# Altium schematic symbol library LF.Electronics.SchLib: 15 symbols
Pins are listed as number, name and electrical type; pins without a type are passive.

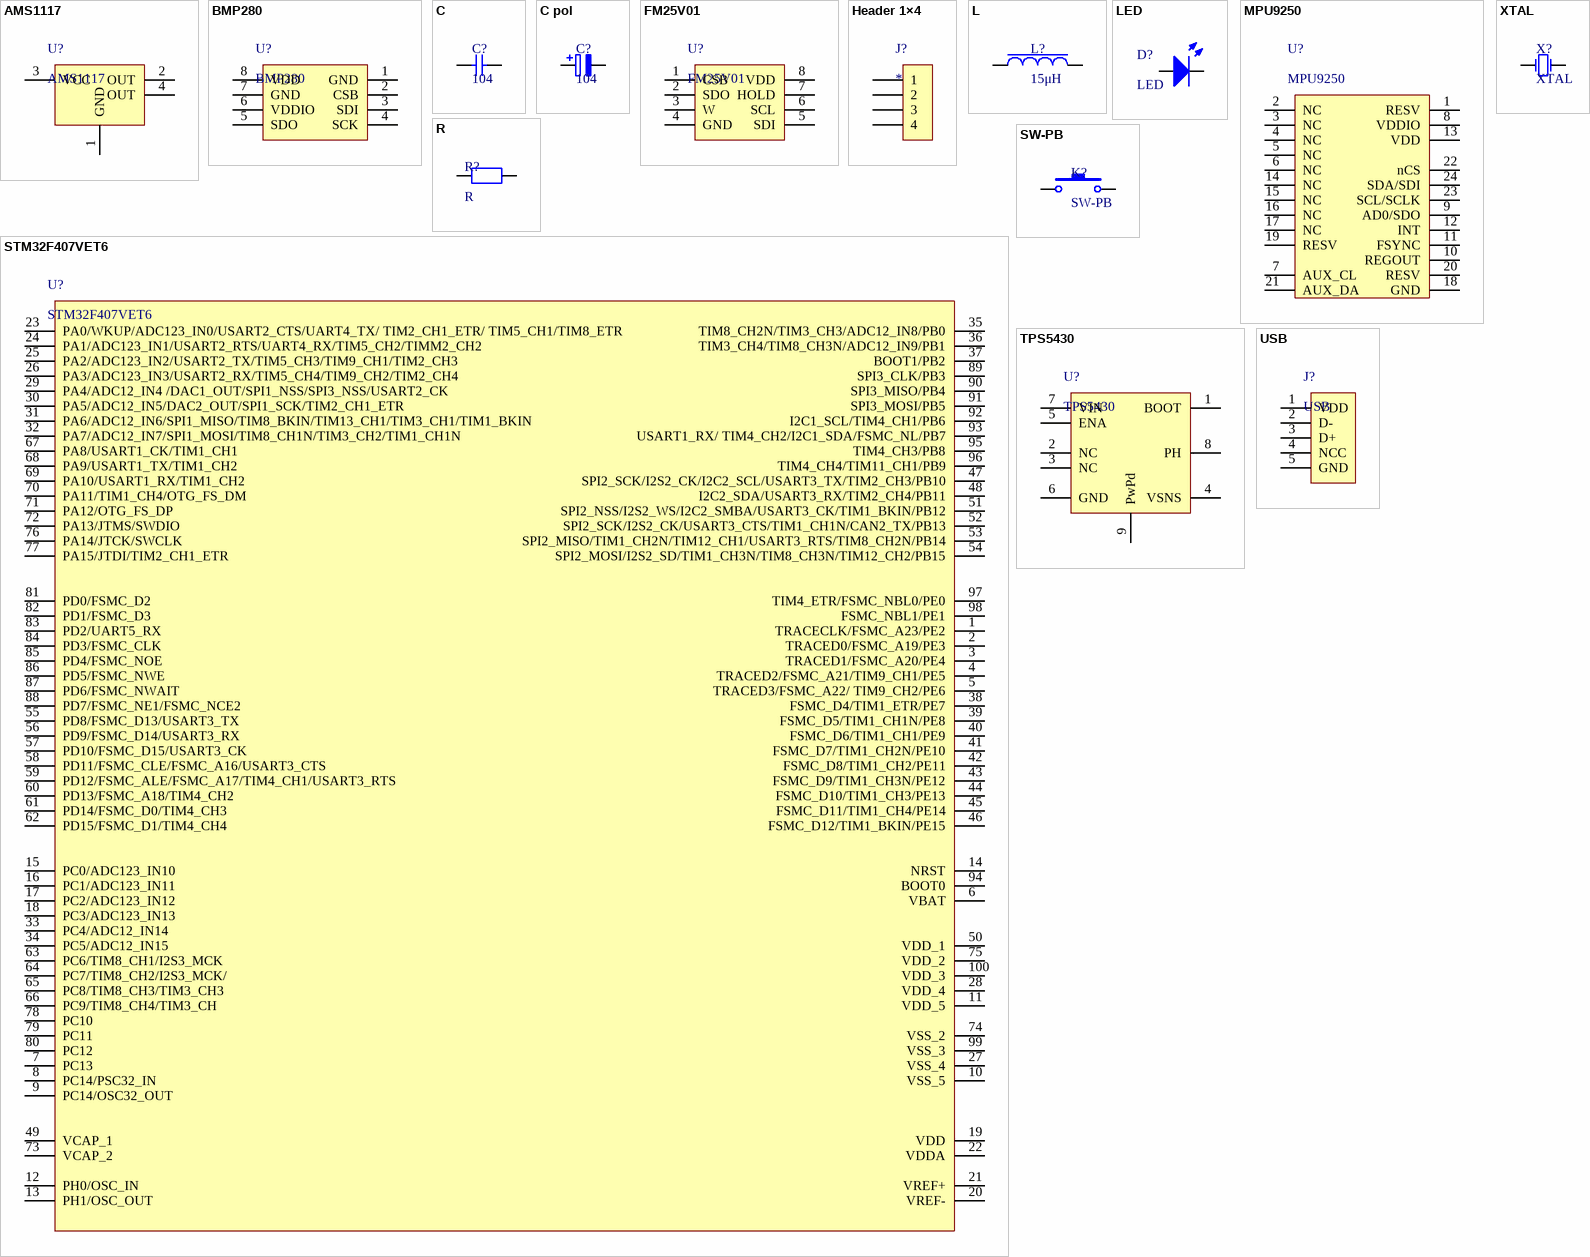
[diagram p0: symbols AMS1117 to XTAL]

## AMS1117
designator U?
footprint AMS1117 (SOT223, 4-Leads, Body 6.51x7.00mm (avg), Pitch 2.29mm, IPC Medium Density)
pins: 1 GND, 2 OUT, 3 VCC, 4 OUT

## BMP280
designator U?
pins: 1 GND, 2 CSB, 3 SDI, 4 SCK, 5 SDO, 6 VDDIO, 7 GND, 8 VDD

## C
designator C?, comment 104
footprint RC0805
pins: 1, 2

## C pol
designator C?, comment 104
footprint RC0603
pins: 1, 2

## FM25V01
designator U?
footprint FM25V01 (SOIC, 8-Leads, Body 4.90x3.90mm, Pitch 1.27mm, IPC Medium Density)
pins: 1 CSB "Chip Select", 2 SDO "Serial data output", 3 W "Write Protect", 4 GND, 5 SDI "Serial Data Input", 6 SCL "Serial Clock", 7 HOLD "Hold", 8 VDD

## Header 1×4
designator J?
pins: 1, 2, 3, 4

## L
designator L?, comment 15μH
footprint CD45
pins: 1, 2

## LED
designator D?
footprint LED
pins: 1, 2

## MPU9250
designator U?
footprint MPU9250
pins: 1 RESV, 2 NC, 3 NC, 4 NC, 5 NC, 6 NC, 7 AUX_CL, 8 VDDIO, 9 AD0/SDO, 10 REGOUT, 11 FSYNC, 12 INT, 13 VDD, 14 NC, 15 NC, 16 NC, 17 NC, 18 GND, 19 RESV, 20 RESV, 21 AUX_DA, 22 nCS, 23 SCL/SCLK, 24 SDA/SDI

## R
designator R?
footprint RC0805
pins: 1, 2

## STM32F407VET6
designator U?
footprint STM32F407VET6 (TSQFP, 100-Leads, Body 14.00x14.00mm, Pitch 0.50mm, IPC Medium Density)
pins: 1 TRACECLK/FSMC_A23/PE2, 2 TRACED0/FSMC_A19/PE3, 3 TRACED1/FSMC_A20/PE4, 4 TRACED2/FSMC_A21/TIM9_CH1/PE5, 5 TRACED3/FSMC_A22/ TIM9_CH2/PE6, 6 VBAT, 7 PC13, 8 PC14/PSC32_IN, 9 PC14/OSC32_OUT, 10 VSS_5, 11 VDD_5, 12 PH0/OSC_IN, 13 PH1/OSC_OUT, 14 NRST, 15 PC0/ADC123_IN10, 16 PC1/ADC123_IN11, 17 PC2/ADC123_IN12, 18 PC3/ADC123_IN13, 19 VDD, 20 VREF-, 21 VREF+, 22 VDDA, 23 PA0/WKUP/ADC123_IN0/USART2_CTS/UART4_TX/ TIM2_CH1_ETR/ TIM5_CH1/TIM8_ETR, 24 PA1/ADC123_IN1/USART2_RTS/UART4_RX/TIM5_CH2/TIMM2_CH2, 25 PA2/ADC123_IN2/USART2_TX/TIM5_CH3/TIM9_CH1/TIM2_CH3, 26 PA3/ADC123_IN3/USART2_RX/TIM5_CH4/TIM9_CH2/TIM2_CH4, 27 VSS_4, 28 VDD_4, 29 PA4/ADC12_IN4 /DAC1_OUT/SPI1_NSS/SPI3_NSS/USART2_CK, 30 PA5/ADC12_IN5/DAC2_OUT/SPI1_SCK/TIM2_CH1_ETR, 31 PA6/ADC12_IN6/SPI1_MISO/TIM8_BKIN/TIM13_CH1/TIM3_CH1/TIM1_BKIN, 32 PA7/ADC12_IN7/SPI1_MOSI/TIM8_CH1N/TIM3_CH2/TIM1_CH1N, 33 PC4/ADC12_IN14, 34 PC5/ADC12_IN15, 35 TIM8_CH2N/TIM3_CH3/ADC12_IN8/PB0, 36 TIM3_CH4/TIM8_CH3N/ADC12_IN9/PB1, 37 BOOT1/PB2, 38 FSMC_D4/TIM1_ETR/PE7, 39 FSMC_D5/TIM1_CH1N/PE8, 40 FSMC_D6/TIM1_CH1/PE9, 41 FSMC_D7/TIM1_CH2N/PE10, 42 FSMC_D8/TIM1_CH2/PE11, 43 FSMC_D9/TIM1_CH3N/PE12, 44 FSMC_D10/TIM1_CH3/PE13, 45 FSMC_D11/TIM1_CH4/PE14, 46 FSMC_D12/TIM1_BKIN/PE15, 47 SPI2_SCK/I2S2_CK/I2C2_SCL/USART3_TX/TIM2_CH3/PB10, 48 I2C2_SDA/USART3_RX/TIM2_CH4/PB11, 49 VCAP_1, 50 VDD_1, 51 SPI2_NSS/I2S2_WS/I2C2_SMBA/USART3_CK/TIM1_BKIN/PB12, 52 SPI2_SCK/I2S2_CK/USART3_CTS/TIM1_CH1N/CAN2_TX/PB13, 53 SPI2_MISO/TIM1_CH2N/TIM12_CH1/USART3_RTS/TIM8_CH2N/PB14, 54 SPI2_MOSI/I2S2_SD/TIM1_CH3N/TIM8_CH3N/TIM12_CH2/PB15, 55 PD8/FSMC_D13/USART3_TX, 56 PD9/FSMC_D14/USART3_RX, 57 PD10/FSMC_D15/USART3_CK, 58 PD11/FSMC_CLE/FSMC_A16/USART3_CTS, 59 PD12/FSMC_ALE/FSMC_A17/TIM4_CH1/USART3_RTS, 60 PD13/FSMC_A18/TIM4_CH2, 61 PD14/FSMC_D0/TIM4_CH3, 62 PD15/FSMC_D1/TIM4_CH4, 63 PC6/TIM8_CH1/I2S3_MCK, 64 PC7/TIM8_CH2/I2S3_MCK/, 65 PC8/TIM8_CH3/TIM3_CH3, 66 PC9/TIM8_CH4/TIM3_CH, 67 PA8/USART1_CK/TIM1_CH1, 68 PA9/USART1_TX/TIM1_CH2, 69 PA10/USART1_RX/TIM1_CH2, 70 PA11/TIM1_CH4/OTG_FS_DM, 71 PA12/OTG_FS_DP, 72 PA13/JTMS/SWDIO, 73 VCAP_2, 74 VSS_2, 75 VDD_2, 76 PA14/JTCK/SWCLK, 77 PA15/JTDI/TIM2_CH1_ETR, 78 PC10, 79 PC11, 80 PC12, 81 PD0/FSMC_D2, 82 PD1/FSMC_D3, 83 PD2/UART5_RX, 84 PD3/FSMC_CLK, 85 PD4/FSMC_NOE, 86 PD5/FSMC_NWE, 87 PD6/FSMC_NWAIT, 88 PD7/FSMC_NE1/FSMC_NCE2, 89 SPI3_CLK/PB3, 90 SPI3_MISO/PB4, 91 SPI3_MOSI/PB5, 92 I2C1_SCL/TIM4_CH1/PB6, 93 USART1_RX/ TIM4_CH2/I2C1_SDA/FSMC_NL/PB7, 94 BOOT0, 95 TIM4_CH3/PB8, 96 TIM4_CH4/TIM11_CH1/PB9, 97 TIM4_ETR/FSMC_NBL0/PE0, 98 FSMC_NBL1/PE1, 99 VSS_3, 100 VDD_3

## SW-PB
designator K?
footprint SW-PB
pins: 1, 2

## TPS5430
designator U?
footprint TPS5430 (SOIC, 8-Leads, Body 4.90x3.90mm, Pitch 1.27mm, IPC Medium Density)
pins: 1 BOOT, 2 NC, 3 NC, 4 VSNS, 5 ENA, 6 GND, 7 VIN, 8 PH, 9 PwPd

## USB
designator J?
footprint MINI USB
pins: 1 VDD, 2 D-, 3 D+, 4 NCC "ID", 5 GND

## XTAL
designator X?
footprint 49S-SMD
pins: 1 IN, 2 OUT